# Altium footprint library DIOM5126X229N.PcbLib: 1 footprints
Each footprint in its own frame and in the unit in brackets; x right, y up, seen from the top. Pads: shape width x height; smd on the part's side, far side on the other; paste and mask are expansions set on the pad; w line width, h text height; cw(c..) or ccw(c..) is an arc to the next point about the centre after c.
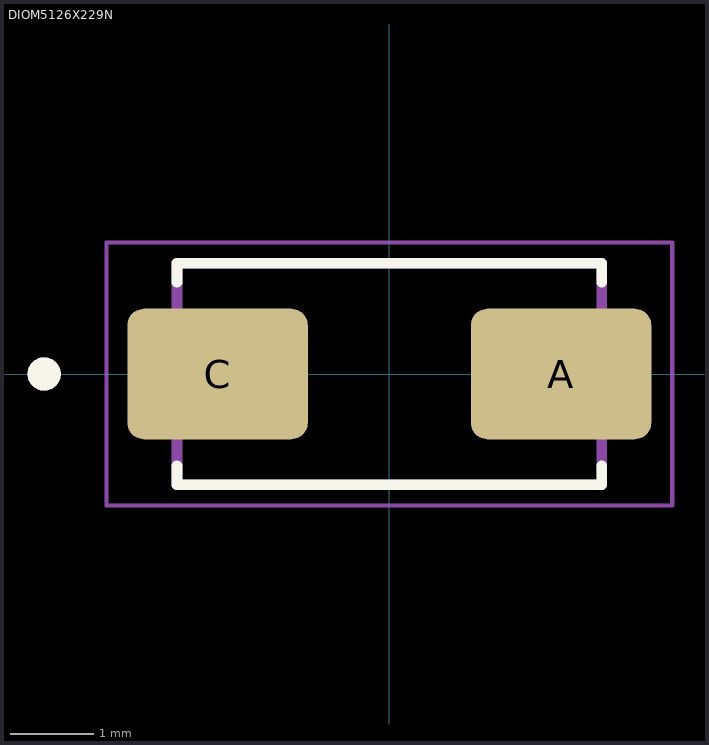
[diagram p0: the footprint, top view; thin cyan lines are the x and y axes]

## DIOM5126X229N [mm]
height 2.29
pads (2):
  rrect25% 2.17x1.57 smd: A(2.065,0) C(-2.065,0)
Top Overlay:
  circle w0.2: c-4.15,0 r0.1
  lines w0.127: -2.552,-1.105 -2.552,-1.332 2.552,-1.332 2.552,-1.105 ; -2.552,1.105 -2.552,1.332 2.552,1.332 2.552,1.105
Assembly Top:
  circle w0.2: c-4.15,0 r0.1
  lines w0.127: -2.552,-1.332 2.552,-1.332 2.552,1.332 -2.552,1.332 -2.552,-1.332
Courtyard Top:
  lines w0.05: -3.4,-1.582 -3.4,1.582 3.4,1.582 3.4,-1.582 -3.4,-1.582
3D body "step_temp.STEP": height 2.29, standoff 0, extent -2.553,-1.333 2.553,1.333